# EAGLE library part HDI-160F (library con-amp)
AMP connector
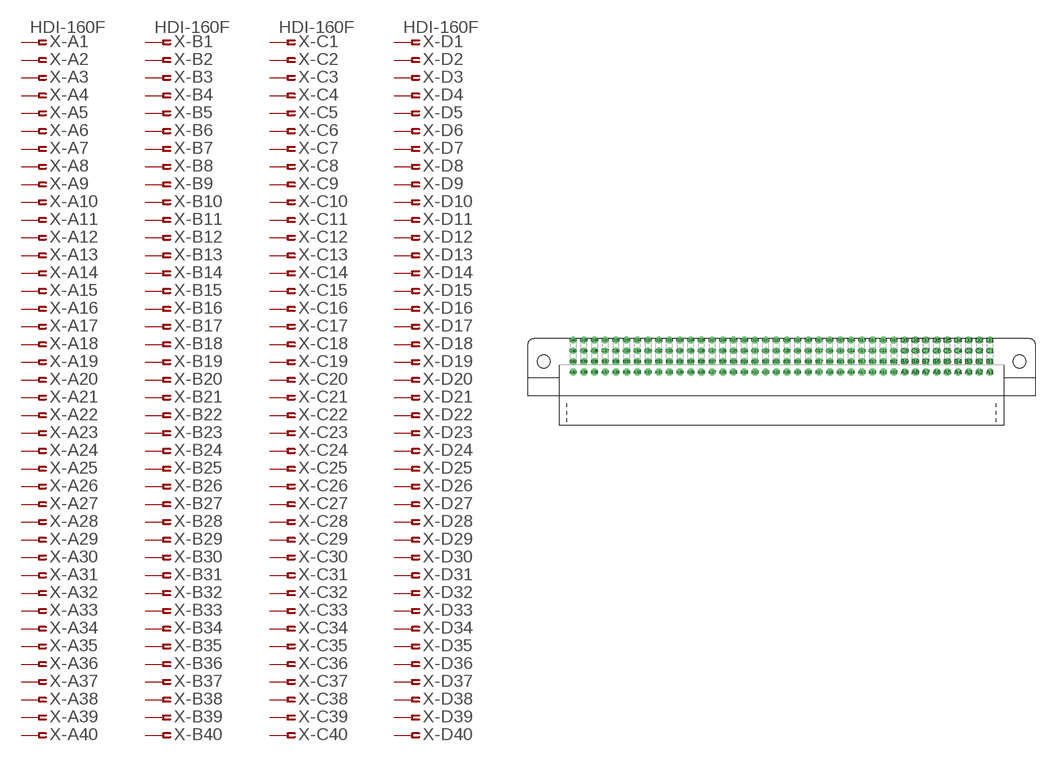
[diagram p135: symbol with the pads of HDI-160F; footprint HDI-160F]

Designator prefix X; gates -A1=PIN-FV -A2=PIN-F -A3=PIN-F -A4=PIN-F -A5=PIN-F -A6=PIN-F -A7=PIN-F -A8=PIN-F -A9=PIN-F -A10=PIN-F -A11=PIN-F -A12=PIN-F -A13=PIN-F -A14=PIN-F -A15=PIN-F -A16=PIN-F -A17=PIN-F -A18=PIN-F -A19=PIN-F -A20=PIN-F -A21=PIN-F -A22=PIN-F -A23=PIN-F -A24=PIN-F -A25=PIN-F -A26=PIN-F -A27=PIN-F -A28=PIN-F -A29=PIN-F -A30=PIN-F -A31=PIN-F -A32=PIN-F -A33=PIN-F -A34=PIN-F -A35=PIN-F -A36=PIN-F -A37=PIN-F -A38=PIN-F -A39=PIN-F -A40=PIN-F -B1=PIN-FV -B2=PIN-F -B3=PIN-F -B4=PIN-F -B5=PIN-F -B6=PIN-F -B7=PIN-F -B8=PIN-F -B9=PIN-F -B10=PIN-F -B11=PIN-F -B12=PIN-F -B13=PIN-F -B14=PIN-F -B15=PIN-F -B16=PIN-F -B17=PIN-F -B18=PIN-F -B19=PIN-F -B20=PIN-F -B21=PIN-F -B22=PIN-F -B23=PIN-F -B24=PIN-F -B25=PIN-F -B26=PIN-F -B27=PIN-F -B28=PIN-F -B29=PIN-F -B30=PIN-F -B31=PIN-F -B32=PIN-F -B33=PIN-F -B34=PIN-F -B35=PIN-F -B36=PIN-F -B37=PIN-F -B38=PIN-F -B39=PIN-F -B40=PIN-F -C1=PIN-FV -C2=PIN-F -C3=PIN-F -C4=PIN-F -C5=PIN-F -C6=PIN-F -C7=PIN-F -C8=PIN-F -C9=PIN-F -C10=PIN-F -C11=PIN-F -C12=PIN-F -C13=PIN-F -C14=PIN-F -C15=PIN-F -C16=PIN-F -C17=PIN-F -C18=PIN-F -C19=PIN-F -C20=PIN-F -C21=PIN-F -C22=PIN-F -C23=PIN-F -C24=PIN-F -C25=PIN-F -C26=PIN-F -C27=PIN-F -C28=PIN-F -C29=PIN-F -C30=PIN-F -C31=PIN-F -C32=PIN-F -C33=PIN-F -C34=PIN-F -C35=PIN-F -C36=PIN-F -C37=PIN-F -C38=PIN-F -C39=PIN-F -C40=PIN-F -D1=PIN-FV -D2=PIN-F -D3=PIN-F -D4=PIN-F -D5=PIN-F -D6=PIN-F -D7=PIN-F -D8=PIN-F -D9=PIN-F -D10=PIN-F -D11=PIN-F -D12=PIN-F -D13=PIN-F -D14=PIN-F -D15=PIN-F -D16=PIN-F -D17=PIN-F -D18=PIN-F -D19=PIN-F -D20=PIN-F -D21=PIN-F -D22=PIN-F -D23=PIN-F -D24=PIN-F -D25=PIN-F -D26=PIN-F -D27=PIN-F -D28=PIN-F -D29=PIN-F -D30=PIN-F -D31=PIN-F -D32=PIN-F -D33=PIN-F -D34=PIN-F -D35=PIN-F -D36=PIN-F -D37=PIN-F -D38=PIN-F -D39=PIN-F -D40=PIN-F

## HDI-160F  [HDI-160F]
A1  -A1:1  pas
A2  -A2:1  pas
A3  -A3:1  pas
A4  -A4:1  pas
A5  -A5:1  pas
A6  -A6:1  pas
A7  -A7:1  pas
A8  -A8:1  pas
A9  -A9:1  pas
A10  -A10:1  pas
A11  -A11:1  pas
A12  -A12:1  pas
A13  -A13:1  pas
A14  -A14:1  pas
A15  -A15:1  pas
A16  -A16:1  pas
A17  -A17:1  pas
A18  -A18:1  pas
A19  -A19:1  pas
A20  -A20:1  pas
A21  -A21:1  pas
A22  -A22:1  pas
A23  -A23:1  pas
A24  -A24:1  pas
A25  -A25:1  pas
A26  -A26:1  pas
A27  -A27:1  pas
A28  -A28:1  pas
A29  -A29:1  pas
A30  -A30:1  pas
A31  -A31:1  pas
A32  -A32:1  pas
A33  -A33:1  pas
A34  -A34:1  pas
A35  -A35:1  pas
A36  -A36:1  pas
A37  -A37:1  pas
A38  -A38:1  pas
A39  -A39:1  pas
A40  -A40:1  pas
B1  -B1:1  pas
B2  -B2:1  pas
B3  -B3:1  pas
B4  -B4:1  pas
B5  -B5:1  pas
B6  -B6:1  pas
B7  -B7:1  pas
B8  -B8:1  pas
B9  -B9:1  pas
B10  -B10:1  pas
B11  -B11:1  pas
B12  -B12:1  pas
B13  -B13:1  pas
B14  -B14:1  pas
B15  -B15:1  pas
B16  -B16:1  pas
B17  -B17:1  pas
B18  -B18:1  pas
B19  -B19:1  pas
B20  -B20:1  pas
B21  -B21:1  pas
B22  -B22:1  pas
B23  -B23:1  pas
B24  -B24:1  pas
B25  -B25:1  pas
B26  -B26:1  pas
B27  -B27:1  pas
B28  -B28:1  pas
B29  -B29:1  pas
B30  -B30:1  pas
B31  -B31:1  pas
B32  -B32:1  pas
B33  -B33:1  pas
B34  -B34:1  pas
B35  -B35:1  pas
B36  -B36:1  pas
B37  -B37:1  pas
B38  -B38:1  pas
B39  -B39:1  pas
B40  -B40:1  pas
C1  -C1:1  pas
C2  -C2:1  pas
C3  -C3:1  pas
C4  -C4:1  pas
C5  -C5:1  pas
C6  -C6:1  pas
C7  -C7:1  pas
C8  -C8:1  pas
C9  -C9:1  pas
C10  -C10:1  pas
C11  -C11:1  pas
C12  -C12:1  pas
C13  -C13:1  pas
C14  -C14:1  pas
C15  -C15:1  pas
C16  -C16:1  pas
C17  -C17:1  pas
C18  -C18:1  pas
C19  -C19:1  pas
C20  -C20:1  pas
C21  -C21:1  pas
C22  -C22:1  pas
C23  -C23:1  pas
C24  -C24:1  pas
C25  -C25:1  pas
C26  -C26:1  pas
C27  -C27:1  pas
C28  -C28:1  pas
C29  -C29:1  pas
C30  -C30:1  pas
C31  -C31:1  pas
C32  -C32:1  pas
C33  -C33:1  pas
C34  -C34:1  pas
C35  -C35:1  pas
C36  -C36:1  pas
C37  -C37:1  pas
C38  -C38:1  pas
C39  -C39:1  pas
C40  -C40:1  pas
D1  -D1:1  pas
D2  -D2:1  pas
D3  -D3:1  pas
D4  -D4:1  pas
D5  -D5:1  pas
D6  -D6:1  pas
D7  -D7:1  pas
D8  -D8:1  pas
D9  -D9:1  pas
D10  -D10:1  pas
D11  -D11:1  pas
D12  -D12:1  pas
D13  -D13:1  pas
D14  -D14:1  pas
D15  -D15:1  pas
D16  -D16:1  pas
D17  -D17:1  pas
D18  -D18:1  pas
D19  -D19:1  pas
D20  -D20:1  pas
D21  -D21:1  pas
D22  -D22:1  pas
D23  -D23:1  pas
D24  -D24:1  pas
D25  -D25:1  pas
D26  -D26:1  pas
D27  -D27:1  pas
D28  -D28:1  pas
D29  -D29:1  pas
D30  -D30:1  pas
D31  -D31:1  pas
D32  -D32:1  pas
D33  -D33:1  pas
D34  -D34:1  pas
D35  -D35:1  pas
D36  -D36:1  pas
D37  -D37:1  pas
D38  -D38:1  pas
D39  -D39:1  pas
D40  -D40:1  pas

## Footprint HDI-160F (pad centres in mm)
AMP connector
drill 1.09 octagon: A1 49.53,-2.54; A2 46.99,-2.54; A3 44.45,-2.54; A4 41.91,-2.54; A5 39.37,-2.54; A6 36.83,-2.54; A7 34.29,-2.54; A8 31.75,-2.54; A9 29.21,-2.54; A10 26.67,-2.54; A11 24.13,-2.54; A12 21.59,-2.54; A13 19.05,-2.54; A14 16.51,-2.54; A15 13.97,-2.54; A16 11.43,-2.54; A17 8.89,-2.54; A18 6.35,-2.54; A19 3.81,-2.54; A20 1.27,-2.54; A21 -1.27,-2.54; A22 -3.81,-2.54; A23 -6.35,-2.54; A24 -8.89,-2.54; A25 -11.43,-2.54; A26 -13.97,-2.54; A27 -16.51,-2.54; A28 -19.05,-2.54; A29 -21.59,-2.54; A30 -24.13,-2.54; A31 -26.67,-2.54; A32 -29.21,-2.54; A33 -31.75,-2.54; A34 -34.29,-2.54; A35 -36.83,-2.54; A36 -39.37,-2.54; A37 -41.91,-2.54; A38 -44.45,-2.54; A39 -46.99,-2.54; A40 -49.53,-2.54
drill 1.09: B1 49.53,0; B2 46.99,0; B3 44.45,0; B4 41.91,0; B5 39.37,0; B6 36.83,0; B7 34.29,0; B8 31.75,0; B9 29.21,0; B10 26.67,0; B11 24.13,0; B12 21.59,0; B13 19.05,0; B14 16.51,0; B15 13.97,0; B16 11.43,0; B17 8.89,0; B18 6.35,0; B19 3.81,0; B20 1.27,0; B21 -1.27,0; B22 -3.81,0; B23 -6.35,0; B24 -8.89,0; B25 -11.43,0; B26 -13.97,0; B27 -16.51,0; B28 -19.05,0; B29 -21.59,0; B30 -24.13,0; B31 -26.67,0; B32 -29.21,0; B33 -31.75,0; B34 -34.29,0; B35 -36.83,0; B36 -39.37,0; B37 -41.91,0; B38 -44.45,0; B39 -46.99,0; B40 -49.53,0; C1 49.53,2.54; C2 46.99,2.54; C3 44.45,2.54; C4 41.91,2.54; C5 39.37,2.54; C6 36.83,2.54; C7 34.29,2.54; C8 31.75,2.54; C9 29.21,2.54; C10 26.67,2.54; C11 24.13,2.54; C12 21.59,2.54; C13 19.05,2.54; C14 16.51,2.54; C15 13.97,2.54; C16 11.43,2.54; C17 8.89,2.54; C18 6.35,2.54; C19 3.81,2.54; C20 1.27,2.54; C21 -1.27,2.54; C22 -3.81,2.54; C23 -6.35,2.54; C24 -8.89,2.54; C25 -11.43,2.54; C26 -13.97,2.54; C27 -16.51,2.54; C28 -19.05,2.54; C29 -21.59,2.54; C30 -24.13,2.54; C31 -26.67,2.54; C32 -29.21,2.54; C33 -31.75,2.54; C34 -34.29,2.54; C35 -36.83,2.54; C36 -39.37,2.54; C37 -41.91,2.54; C38 -44.45,2.54; C39 -46.99,2.54; C40 -49.53,2.54; D1 49.53,5.08; D2 46.99,5.08; D3 44.45,5.08; D4 41.91,5.08; D5 39.37,5.08; D6 36.83,5.08; D7 34.29,5.08; D8 31.75,5.08; D9 29.21,5.08; D10 26.67,5.08; D11 24.13,5.08; D12 21.59,5.08; D13 19.05,5.08; D14 16.51,5.08; D15 13.97,5.08; D16 11.43,5.08; D17 8.89,5.08; D18 6.35,5.08; D19 3.81,5.08; D20 1.27,5.08; D21 -1.27,5.08; D22 -3.81,5.08; D23 -6.35,5.08; D24 -8.89,5.08; D25 -11.43,5.08; D26 -13.97,5.08; D27 -16.51,5.08; D28 -19.05,5.08; D29 -21.59,5.08; D30 -24.13,5.08; D31 -26.67,5.08; D32 -29.21,5.08; D33 -31.75,5.08; D34 -34.29,5.08; D35 -36.83,5.08; D36 -39.37,5.08; D37 -41.91,5.08; D38 -44.45,5.08; D39 -46.99,5.08; D40 -49.53,5.08
hole 3.05 at -56.51,0
hole 3.05 at 56.51,0